# Altium schematic symbol library TEENSY_LC.Schlib: 1 symbol
Pins are listed as number, name and electrical type; pins without a type are passive.

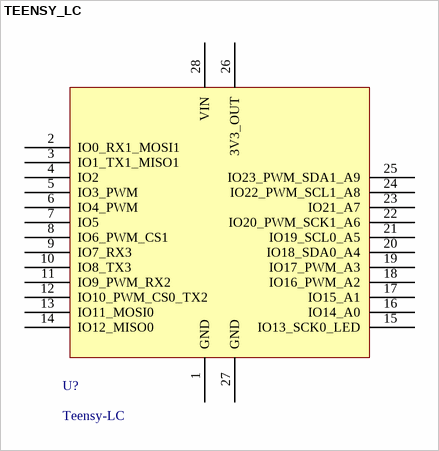
[diagram p0: symbol TEENSY_LC]

## TEENSY_LC
designator U?, comment Teensy-LC
pins: 1 GND, 2 IO0_RX1_MOSI1, 3 IO1_TX1_MISO1, 4 IO2, 5 IO3_PWM, 6 IO4_PWM, 7 IO5, 8 IO6_PWM_CS1, 9 IO7_RX3, 10 IO8_TX3, 11 IO9_PWM_RX2, 12 IO10_PWM_CS0_TX2, 13 IO11_MOSI0, 14 IO12_MISO0, 15 IO13_SCK0_LED, 16 IO14_A0, 17 IO15_A1, 18 IO16_PWM_A2, 19 IO17_PWM_A3, 20 IO18_SDA0_A4, 21 IO19_SCL0_A5, 22 IO20_PWM_SCK1_A6, 23 IO21_A7, 24 IO22_PWM_SCL1_A8, 25 IO23_PWM_SDA1_A9, 26 3V3_OUT, 27 GND, 28 VIN